# EAGLE library part 43045-18 (library con-molex-micro-fit)
HEADER
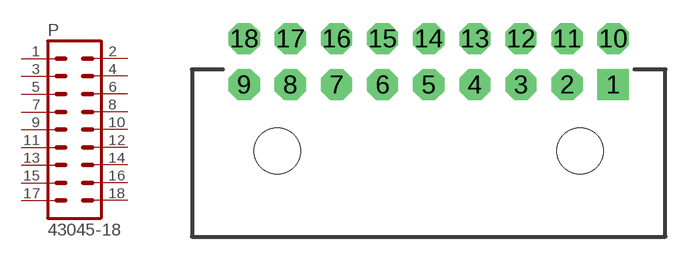
[diagram p6: symbol with the pads of 43045-18; footprint 43045-18]

Designator prefix P

## 43045-18  [43045-18]
1  1  pas
2  2  pas
3  3  pas
4  4  pas
5  5  pas
6  6  pas
7  7  pas
8  8  pas
9  9  pas
10  10  pas
11  11  pas
12  12  pas
13  13  pas
14  14  pas
15  15  pas
16  16  pas
17  17  pas
18  18  pas

## Footprint 43045-18 (pad centres in mm)
HEADER
drill 1.016 pad 2.032 square: 1 12,0
drill 1.016 pad 2.032 octagon: 2 9,0; 3 6,0; 4 3,0; 5 0,0; 6 -3,0; 7 -6,0; 8 -9,0; 9 -12,0; 10 12,3; 11 9,3; 12 6,3; 13 3,3; 14 0,3; 15 -3,3; 16 -6,3; 17 -9,3; 18 -12,3
hole 3 at -9.85,-4.32
hole 3 at 9.85,-4.32